# Altium footprint library PCB - DIODES - SOD123F.PCBLIB: 1 footprints
Each footprint in its own frame and in the unit in brackets; x right, y up, seen from the top. Pads: shape width x height; smd on the part's side, far side on the other; paste and mask are expansions set on the pad; w line width, h text height; cw(c..) or ccw(c..) is an arc to the next point about the centre after c.
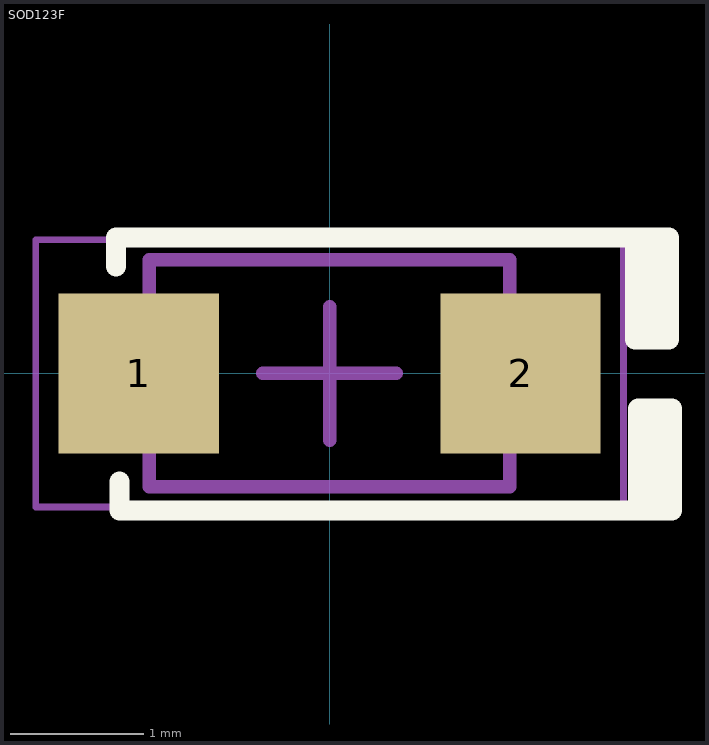
[diagram p0: the footprint, top view; thin cyan lines are the x and y axes]

## SOD123F [mm] "SODFL, 2-Leads, Body 1.60x3.50mm, IPC Medium Density"
height 1
pads (2):
  rect 1.2x1.2 smd: 1(-1.43,0) 2(1.43,0)
Top Overlay:
  lines w0.15: -1.6,0.8 -1.6,1.016 2.286,1.016 ; -1.575,-0.809 -1.575,-1.025 2.311,-1.025 ; 2.286,1.016 2.286,0.254 2.413,0.254 ; 2.286,1.016 2.413,1.016 ; 2.311,-1.025 2.311,-0.263 2.438,-0.263 ; 2.311,-1.025 2.438,-1.025 ; 2.413,0.254 2.413,1.016 ; 2.413,0.254 2.54,0.254 2.54,1.016 2.413,1.016 ; 2.438,-1.025 2.438,-0.263 ; 2.438,-1.025 2.565,-1.025 2.565,-0.263 2.438,-0.263
Mechanical 13:
  lines w0.1: -1.35,-0.85 -1.35,0.85 1.35,0.85 1.35,-0.85 -1.35,-0.85
Mechanical 15:
  lines w0.05: -2.2,-1 -2.2,1 2.2,1 2.2,-1 -2.2,-1
  lines w0.1: -0.5,0 0.5,0 ; 0,-0.5 0,0.5
3D body "SOD123F.STEP": height 1.1, standoff 0, extent -1.75,-0.8 1.75,0.8